# EAGLE library part VM1 (library opto)
Voltmeter module MDMV (Red Lion) ±200mV, 3.5 digits, 0.1%
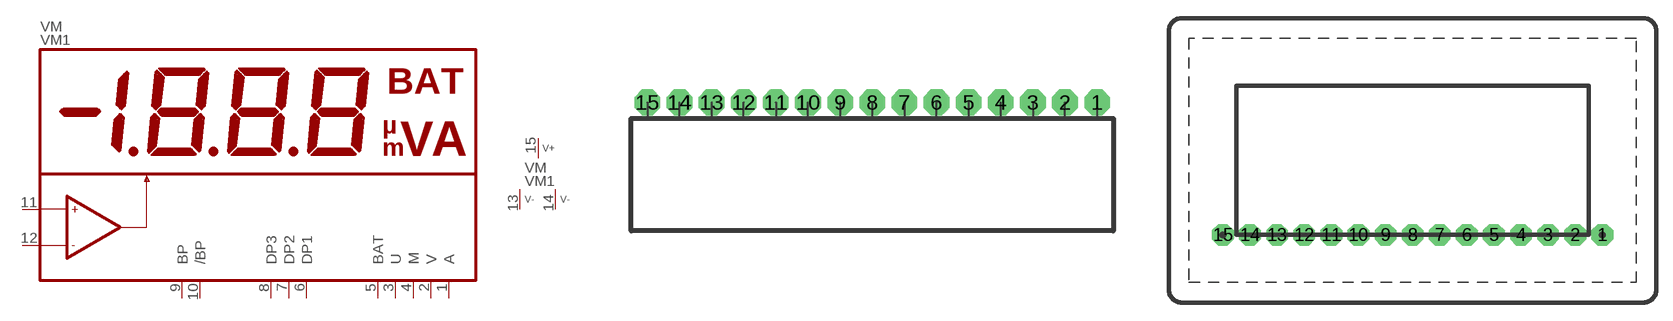
[diagram p0: symbol with the pads of MDMVVN; footprints MDMVVN, MDMVHN]

Designator prefix VM; gates  =MDMV P=V+2-

## VM1VN  [MDMVVN]
1   :A  in
2   :V  in
3   :U  in
4   :M  in
5   :BAT  in
6   :DP1  in
7   :DP2  in
8   :DP3  in
9   :BP  out
10   :/BP  out
11   :IN+  in
12   :IN-  in
13  P:V-1  pwr
14  P:V-2  pwr
15  P:V+  pwr

## VM1HN  [MDMVHN]
Pads as for MDMVVN

## VM1VL  [MDMVVL]
Pads as for MDMVVN

## VM1HL  [MDMVHL]
Pads as for MDMVVN

## VM1  [MDMVHN]
Pads as for MDMVVN

## Footprint MDMVVN (pad centres in mm)
Voltmeter module MDMV (Red Lion) vertical mounting
drill 0.813 pad 2.032 octagon: 1 35.56,0; 2 33.02,0; 3 30.48,0; 4 27.94,0; 5 25.4,0; 6 22.86,0; 7 20.32,0; 8 17.78,0; 9 15.24,0; 10 12.7,0; 11 10.16,0; 12 7.62,0; 13 5.08,0; 14 2.54,0; 15 0,0

## Footprint MDMVHN (pad centres in mm)
Voltmeter module MDMV (Red Lion) horizontal mounting
drill 0.813 pad 2.032 octagon: 1 35.56,0; 2 33.02,0; 3 30.48,0; 4 27.94,0; 5 25.4,0; 6 22.86,0; 7 20.32,0; 8 17.78,0; 9 15.24,0; 10 12.7,0; 11 10.16,0; 12 7.62,0; 13 5.08,0; 14 2.54,0; 15 0,0

## Footprint MDMVVL (pad centres in mm)
Voltmeter module MDMV (Red Lion) vertical mounting, long pads
drill 0.813 pad 1.397 long: 1 35.56,0; 2 33.02,0; 3 30.48,0; 4 27.94,0; 5 25.4,0; 6 22.86,0; 7 20.32,0; 8 17.78,0; 9 15.24,0; 10 12.7,0; 11 10.16,0; 12 7.62,0; 13 5.08,0; 14 2.54,0; 15 0,0

## Footprint MDMVHL (pad centres in mm)
Voltmeter module MDMV (Red Lion) horizontal mounting, long pads
drill 0.813 pad 1.397 long: 1 35.56,0; 2 33.02,0; 3 30.48,0; 4 27.94,0; 5 25.4,0; 6 22.86,0; 7 20.32,0; 8 17.78,0; 9 15.24,0; 10 12.7,0; 11 10.16,0; 12 7.62,0; 13 5.08,0; 14 2.54,0; 15 0,0